# Altium footprint library 龙邱遥控器V1.PcbLib: 26 footprints (part 2 of 2)
Each footprint in its own frame and in the unit in brackets; x right, y up, seen from the top. Pads: shape width x height; smd on the part's side, far side on the other; paste and mask are expansions set on the pad; w line width, h text height; cw(c..) or ccw(c..) is an arc to the next point about the centre after c.
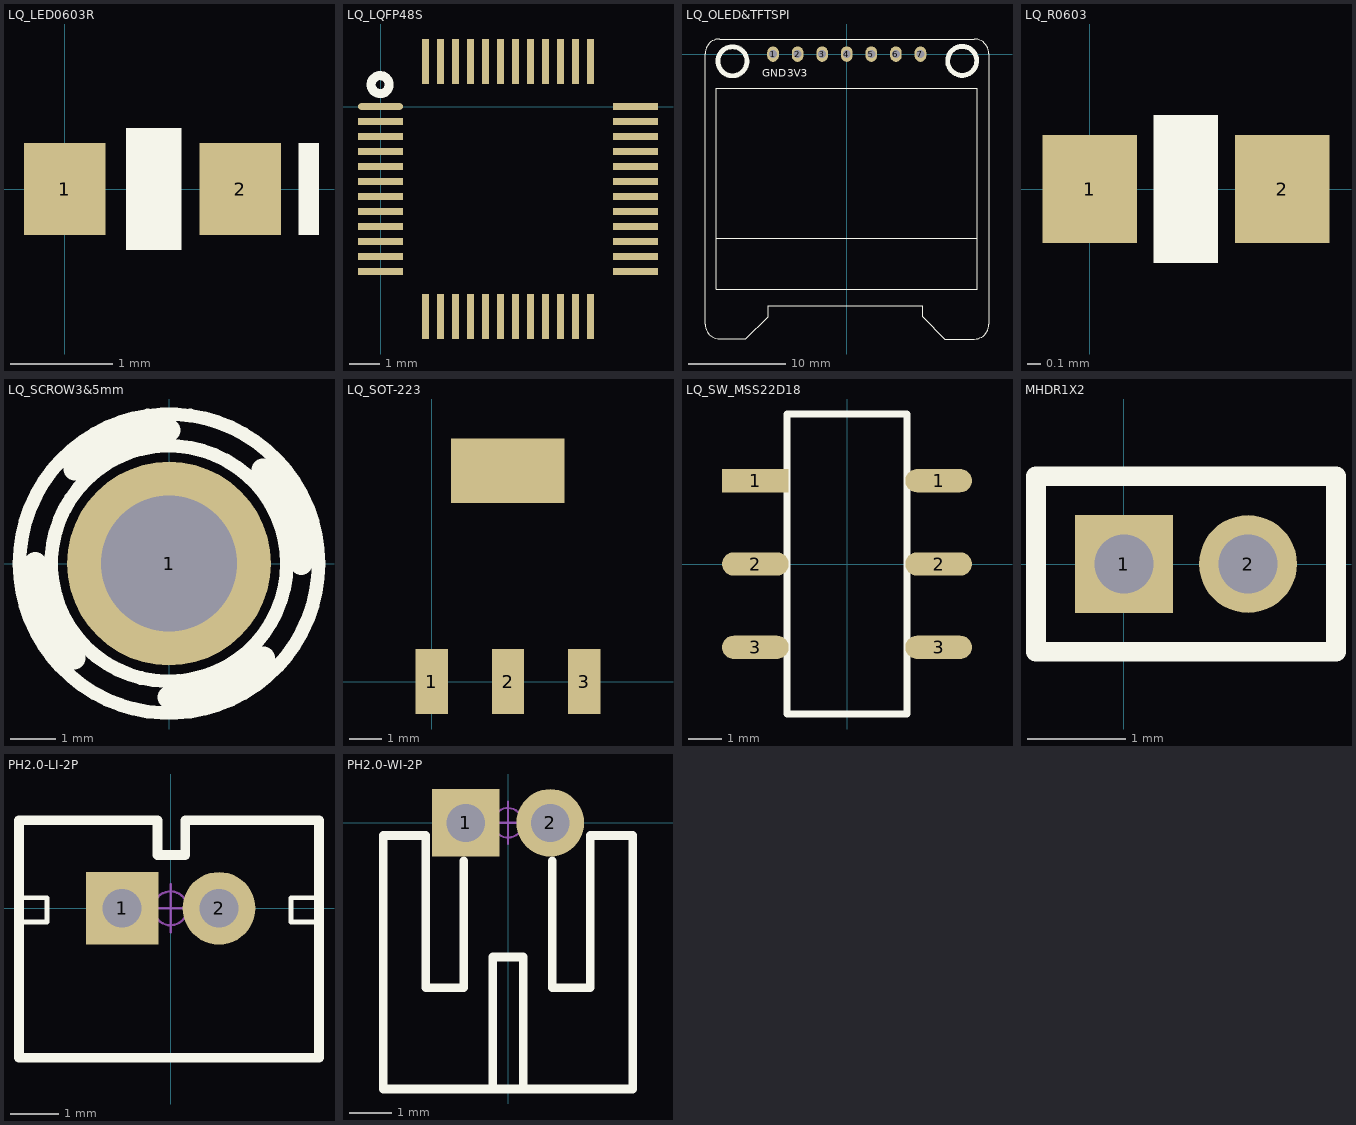
[diagram p1: the footprints below, top view; thin cyan lines are the x and y axes]

## LQ_LED0603R [mm]
pads (2):
  rect 0.8x0.9 smd: 1(0,0) 2(1.727,0)
Top Overlay:
  rectangle: 0.6,-0.6 1.15,0.6
  rectangle: 2.3,-0.45 2.5,0.45
3D body "LQ_LED0603R.STEP": height 0.9, standoff 0, extent 0.02,-0.45 1.72,0.45

## LQ_LQFP48S [mm]
pads (48):
  oval 1.5x0.22 smd: 1(0,0)
  rect 1.5x0.22 smd: 2(0,-0.5) 3(0,-1) 4(0,-1.5) 5(0,-2) 6(0,-2.5) 7(0,-3) 8(0,-3.5) 9(0,-4) 10(0,-4.5) 11(0,-5) 12(0,-5.5) 25(8.5,-5.5) 26(8.5,-5) 27(8.5,-4.5) 28(8.5,-4) 29(8.5,-3.5) 30(8.5,-3) 31(8.5,-2.5) 32(8.5,-2) 33(8.5,-1.5) 34(8.5,-1) 35(8.5,-0.5) 36(8.5,0)
  rect 0.22x1.5 smd: 13(1.5,-7) 14(2,-7) 15(2.5,-7) 16(3,-7) 17(3.5,-7) 18(4,-7) 19(4.5,-7) 20(5,-7) 21(5.5,-7) 22(6,-7) 23(6.5,-7) 24(7,-7) 37(7,1.5) 38(6.5,1.5) 39(6,1.5) 40(5.5,1.5) 41(5,1.5) 42(4.5,1.5) 43(4,1.5) 44(3.5,1.5) 45(3,1.5) 46(2.5,1.5) 47(2,1.5) 48(1.5,1.5)
Top Overlay:
  circle w0.3: c-0.01,0.73 r0.3

## LQ_OLED&TFTSPI [mm]
pads (7):
  oval 1.2x1.6 hole 0.82: 1(-7.62,0) 2(-5.08,0) 3(-2.54,0) 4(0,0) 5(2.54,0) 6(5.08,0) 7(7.62,0)
Top Overlay:
  lines w0.1: -14.63,-27.94 ccw(c-13.13,-27.94) -13.13,-29.44 -10.42,-29.44 -8.14,-27.16 -8.14,-25.99 7.86,-25.99 7.86,-27.16 10.15,-29.45 13.18,-29.45 ccw(c13.18,-27.95) 14.68,-27.95 14.67,0.06 ccw(c13.17,0.06) 13.17,1.56 -13.13,1.56 ccw(c-13.13,0.06) -14.63,0.06 -14.63,-27.94
  lines w0.127: -13.51,-3.51 13.47,-3.51 13.47,-19.01 ; -13.5,-3.51 -13.5,-19.01 ; -13.5,-19.01 13.47,-19.01 ; -13.5,-19.01 -13.5,-24.29 13.47,-24.29 13.47,-19.01
  lines w0.5: -10.32,-0.686 cw(c-11.819,-0.736) -10.32,-0.68 ; 13.429,-0.65 cw(c11.93,-0.7) 13.429,-0.644
  text "3V3" at -6.14,-2.35 h0.8
  text "GND" at -8.76,-2.35 h0.8

## LQ_R0603 [mm]
pads (2):
  rect 0.7x0.8 smd: 1(0,0) 2(1.422,0)
Top Overlay:
  rectangle: 0.47,-0.55 0.95,0.55
3D body "RES-0603.step": height 0.48, standoff 0.02, extent -0.08,-0.4 1.52,0.4

## LQ_SCROW3&5mm [mm]
pads (1):
  round 4.5 hole 3: 1(0,0)
Top Overlay:
  circle w0.3: c0,0 r3.3
  circle w0.3: c0,0 r2.6
  lines w0.5: -2.952,0 ccw(c0,0) -2.088,-2.088 ; -2.081,2.081 cw(c0,0) 0,2.943 ; 0,-2.95 ccw(c0,0) 2.086,-2.086 ; 2.066,2.066 cw(c0,0) 2.922,0
Bottom Overlay:
  circle w0.3: c0,-0.02 r2.6
  circle w0.3: c0,-0.02 r3.3
  lines w0.5: -2.952,-0.02 ccw(c0,-0.02) -2.088,-2.108 ; -2.081,2.061 cw(c0,-0.02) 0,2.923 ; 0,-2.97 ccw(c0,-0.02) 2.086,-2.106 ; 2.066,2.046 cw(c0,-0.02) 2.922,-0.02
3D body "LQ_SCREW3X5.stp": height 1.3, standoff -8.1, extent -3,-3 3,3

## LQ_SOT-223 [mm]
pads (4):
  rect 1x2 smd: 1(0,0) 2(2.35,0) 3(4.7,0)
  rect 3.5x2 smd: ""(2.34,6.5)
3D body "SOT-223_MP04A.STEP": height 1.7, standoff 0, extent -0.85,-0.18 5.65,6.78

## LQ_SW_MSS22D18 [mm]
pads (6):
  rect 2x0.7 smd: 1(-2.75,2.5)
  oval 2x0.7 smd: 1(2.75,2.5) 2(-2.75,0) 2(2.75,0) 3(-2.75,-2.5) 3(2.75,-2.5)
Top Overlay:
  lines w0.2: -1.8,-4.5 1.8,-4.5 1.8,4.5 -1.8,4.5 -1.8,-4.5

## MHDR1X2 [mm] "Connector; Header; 2 Position"
pads (2):
  rect 1x1 hole 0.6: 1(0,0)
  round 1 hole 0.6: 2(1.27,0)
Top Overlay:
  lines w0.2: -0.9,-0.9 -0.9,0.9 2.17,0.9 2.17,-0.9 -0.9,-0.9

## PH2.0-LI-2P [mm] "长：5.9mm，宽：4.7mm，高：6mm"
height 10
pads (2):
  rect 1.5x1.5 hole 0.8: 1(-1,0)
  round 1.5 hole 0.8: 2(1,0)
Top Overlay:
  lines w0.1: -3.128,-0.284 -2.548,-0.284 -2.548,0.216 -3.128,0.216 ; 3.064,-0.284 2.484,-0.284 2.484,0.216 3.064,0.216
  lines w0.2: -3.128,-3.084 -3.128,1.816 ; -0.27,1.816 -0.27,1.1 0.302,1.1 0.302,1.816 ; 3.064,-3.084 3.064,1.816
  lines w0.203: -3.128,-3.084 3,-3.084 ; -3.128,1.816 -0.27,1.816 ; 0.302,1.816 3,1.816
Mechanical 15:
  circle w0.05: c0,0 r0.35
  lines w0.05: -0.5,0 0.5,0 ; 0,-0.5 0,0.5
3D body "PH2.0-LI-2P.STEP": height 6.01, standoff -2.99, extent -2.95,-3 2.95,1.7

## PH2.0-WI-2P [mm] "长：5.9mm，宽：6mm，高：4.7mm"
height 10
pads (2):
  rect 1.6x1.6 hole 0.9: 1(-1,0)
  round 1.6 hole 0.9: 2(1,0)
Top Overlay:
  lines w0.203: -1.05,-0.9 -1.05,-3.9 -1.95,-3.9 -1.95,-3.3 -1.95,-0.3 -2,-0.3 -2.95,-0.3 -2.95,-6.3 2.95,-6.3 2.95,-0.3 2,-0.3 1.95,-0.3 1.95,-3.3 1.95,-3.9 1.05,-3.9 1.05,-0.9 ; -0.365,-6.215 -0.365,-3.175 0.365,-3.175 0.365,-6.215
Mechanical 15:
  circle w0.05: c0,0 r0.35
  lines w0.05: -0.5,0 0.5,0 ; 0,-0.5 0,0.5
3D body "PH2.0-WI-2P.STEP": height 4.75, standoff -2.65, extent -2.95,-6.3 2.95,0.3